# Altium footprint library B13B-XH-A.PcbLib: 1 footprints
Each footprint in its own frame and in the unit in brackets; x right, y up, seen from the top. Pads: shape width x height; smd on the part's side, far side on the other; paste and mask are expansions set on the pad; w line width, h text height; cw(c..) or ccw(c..) is an arc to the next point about the centre after c.
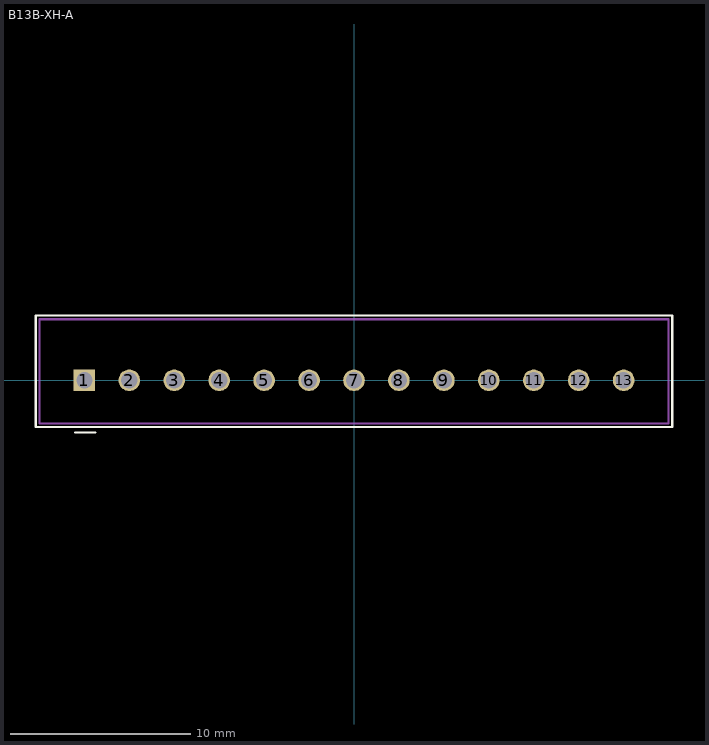
[diagram p0: the footprint, top view; thin cyan lines are the x and y axes]

## B13B-XH-A [mm]
pads (13):
  rect 1.2x1.2 hole 0.9 mask+0.1: 1(-15,0)
  round 1.2 hole 0.9 mask+0.1: 2(-12.5,0) 3(-10,0) 4(-7.5,0) 5(-5,0) 6(-2.5,0) 7(0,0) 8(2.5,0) 9(5,0) 10(7.5,0) 11(10,0) 12(12.5,0) 13(15,0)
Top Overlay:
  lines w0.127: -15.5,-2.9 -14.4,-2.9 ; -17.7,-2.6 -17.7,-2.3 -17.7,3.6 17.7,3.6 17.7,-2.6 -17.7,-2.6
Mechanical 13:
  lines w0.127: -17.5,-2.4 -17.5,3.4 17.5,3.4 17.5,-2.4 -17.5,-2.4
Mechanical 15:
  lines w0.127: -0.4,0 0,0 ; 0,-0.4 0,0 ; 0,0.4 0,0 ; 0.4,0 0,0
3D body "B13B-XH-A.STEP": height 7, standoff -3.4, extent -17.45,-2.375 17.45,3.375